# Altium integrated library WCAP-AS5H_rev15a.intlib: 51 symbols (part 2 of 2)
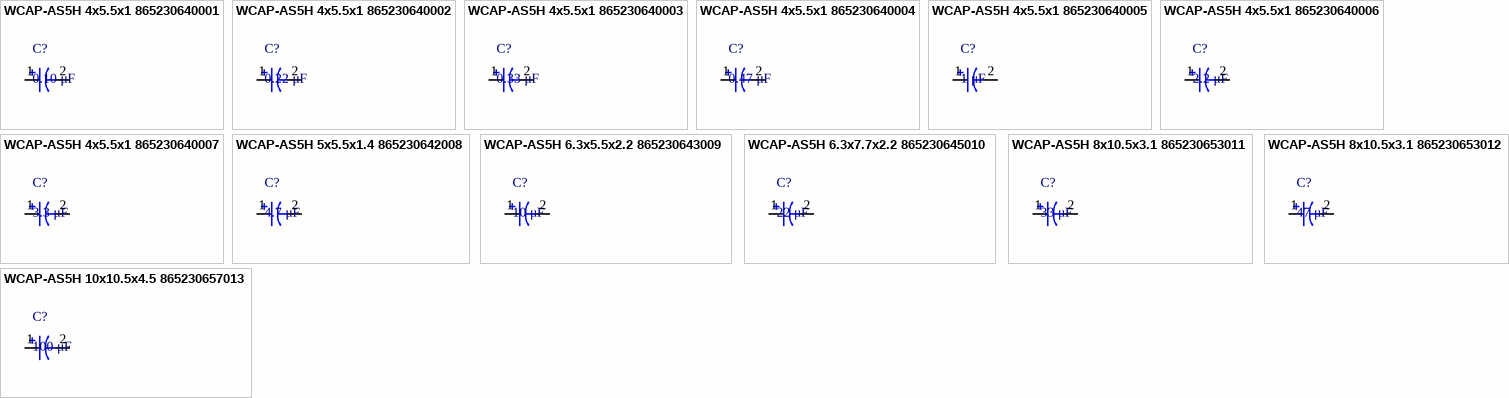
[diagram p6: symbols WCAP-AS5H 4x5.5x1 865230640001 to WCAP-AS5H 10x10.5x4.5 865230657013]

## WCAP-AS5H 6.3x5.5x2.2 865230643009
designator C?, comment 10 μF
WCAP-AS5H Aluminum Electrolytic Capacitors , 10 μF; + / - 20%; 50 V , 6,3 x 5,5; Manufacturer: Wurth Elektronik; partNo: 865230643009; E-mail: libraries@we-online.com; Characteristics: Aluminum Electrolytic Capacitor; Recommended soldering: Reflow; Operating temperature: –40 °C to +105 °C; Long life product series; Load life: 5000 h @ +105 °C; ComponentLink1Description: Manufacturer; ComponentLink1URL: http://www.we-online.com; ComponentLink2Description: Datasheet; ComponentLink2URL: http://katalog.we-online.de/pbs/datasheet/865230643009.pdf; Created by: Karrer Zheng; Created Date: 6/12/2015; Capacitance: 10 μF; Application: Applied to circuit with higher requirements for long life, and can be use for filtering in switching power supply, DC-DC power supply module,conversion adapter, charger, DC motor circuit filter, digital audio, digital TV, digital camera, digital video camera, satellite receivers, equipment control panel power supply and etc.
footprint WCAP-AS5H 6.3x5.5x2.2
pins: 1, 2

## WCAP-AS5H 6.3x7.7x2.2 865230645010
designator C?, comment 22 μF
WCAP-AS5H Aluminum Electrolytic Capacitors , 22 μF; + / - 20%; 50 V , 6,3 x 7,7; Manufacturer: Wurth Elektronik; partNo: 865230645010; E-mail: libraries@we-online.com; Characteristics: Aluminum Electrolytic Capacitor; Recommended soldering: Reflow; Operating temperature: –40 °C to +105 °C; Long life product series; Load life: 5000 h @ +105 °C; ComponentLink1Description: Manufacturer; ComponentLink1URL: http://www.we-online.com; ComponentLink2Description: Datasheet; ComponentLink2URL: http://katalog.we-online.de/pbs/datasheet/865230645010.pdf; Created by: Karrer Zheng; Created Date: 6/12/2015; Capacitance: 22 μF; Application: Applied to circuit with higher requirements for long life, and can be use for filtering in switching power supply, DC-DC power supply module,conversion adapter, charger, DC motor circuit filter, digital audio, digital TV, digital camera, digital video camera, satellite receivers, equipment control panel power supply and etc.
footprint WCAP-AS5H 6.3x7.7x2.2
pins: 1, 2

## WCAP-AS5H 8x10.5x3.1 865230653011
designator C?, comment 33 μF
WCAP-AS5H Aluminum Electrolytic Capacitors , 33 μF; + / - 20%; 50 V , 8 x 10,5; Manufacturer: Wurth Elektronik; partNo: 865230653011; E-mail: libraries@we-online.com; Characteristics: Aluminum Electrolytic Capacitor; Recommended soldering: Reflow; Operating temperature: –40 °C to +105 °C; Long life product series; Load life: 5000 h @ +105 °C; ComponentLink1Description: Manufacturer; ComponentLink1URL: http://www.we-online.com; ComponentLink2Description: Datasheet; ComponentLink2URL: http://katalog.we-online.de/pbs/datasheet/865230653011.pdf; Created by: Karrer Zheng; Created Date: 6/12/2015; Capacitance: 33 μF; Application: Applied to circuit with higher requirements for long life, and can be use for filtering in switching power supply, DC-DC power supply module,conversion adapter, charger, DC motor circuit filter, digital audio, digital TV, digital camera, digital video camera, satellite receivers, equipment control panel power supply and etc.
footprint WCAP-AS5H 8x10.5x3.1
pins: 1, 2

## WCAP-AS5H 8x10.5x3.1 865230653012
designator C?, comment 47 μF
WCAP-AS5H Aluminum Electrolytic Capacitors , 47 μF; + / - 20%; 50 V , 8 x 10,5; Manufacturer: Wurth Elektronik; partNo: 865230653012; E-mail: libraries@we-online.com; Characteristics: Aluminum Electrolytic Capacitor; Recommended soldering: Reflow; Operating temperature: –40 °C to +105 °C; Long life product series; Load life: 5000 h @ +105 °C; ComponentLink1Description: Manufacturer; ComponentLink1URL: http://www.we-online.com; ComponentLink2Description: Datasheet; ComponentLink2URL: http://katalog.we-online.de/pbs/datasheet/865230653012.pdf; Created by: Karrer Zheng; Created Date: 6/12/2015; Capacitance: 47 μF; Application: Applied to circuit with higher requirements for long life, and can be use for filtering in switching power supply, DC-DC power supply module,conversion adapter, charger, DC motor circuit filter, digital audio, digital TV, digital camera, digital video camera, satellite receivers, equipment control panel power supply and etc.
footprint WCAP-AS5H 8x10.5x3.1
pins: 1, 2

## WCAP-AS5H 10x10.5x4.5 865230657013
designator C?, comment 100 μF
WCAP-AS5H Aluminum Electrolytic Capacitors , 100 μF; + / - 20%; 50 V , 10 x 10,5; Manufacturer: Wurth Elektronik; partNo: 865230657013; E-mail: libraries@we-online.com; Characteristics: Aluminum Electrolytic Capacitor; Recommended soldering: Reflow; Operating temperature: –40 °C to +105 °C; Long life product series; Load life: 5000 h @ +105 °C; ComponentLink1Description: Manufacturer; ComponentLink1URL: http://www.we-online.com; ComponentLink2Description: Datasheet; ComponentLink2URL: http://katalog.we-online.de/pbs/datasheet/865230657013.pdf; Created by: Karrer Zheng; Created Date: 6/12/2015; Capacitance: 100 μF; Application: Applied to circuit with higher requirements for long life, and can be use for filtering in switching power supply, DC-DC power supply module,conversion adapter, charger, DC motor circuit filter, digital audio, digital TV, digital camera, digital video camera, satellite receivers, equipment control panel power supply and etc.
footprint WCAP-AS5H 10x10.5x4.5
pins: 1, 2